# EAGLE library part IMU-MODULE (library HiLetgo-IMU-Module)
HiLetgo MPU9250 / 6500 <https://www.amazon.co.jp/dp/B0154PM102> Module
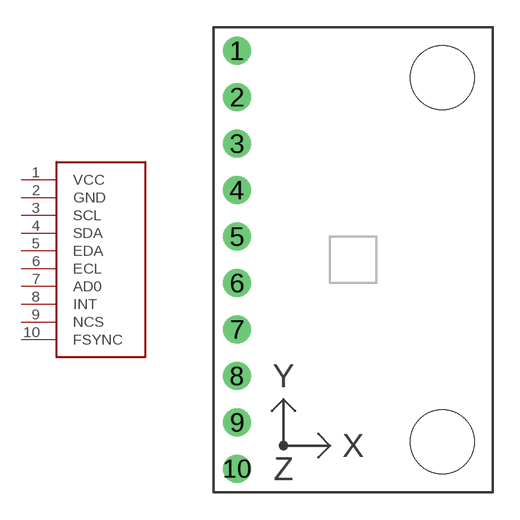
[diagram p0: symbol with the pads of IMU-MODULE; footprint IMU-MODULE]

Designator prefix IC

## IMU-MODULE  [IMU-MODULE]
1  VCC  pwr
2  GND  pwr
3  SCL
4  SDA
5  EDA
6  ECL
7  AD0
8  INT
9  NCS
10  FSYNC

## Footprint IMU-MODULE (pad centres in mm)
drill 1: 1 -6.35,11.43; 2 -6.35,8.89; 3 -6.35,6.35; 4 -6.35,3.81; 5 -6.35,1.27; 6 -6.35,-1.27; 7 -6.35,-3.81; 8 -6.35,-6.35; 9 -6.35,-8.89; 10 -6.35,-11.43
hole 3.5 at 4.87,9.95
hole 3.5 at 4.87,-9.95